# Altium schematic symbol library LM78xx.SchLib: 1 symbol
Pins are listed as number, name and electrical type; pins without a type are passive.

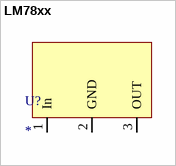
[diagram p0: symbol LM78xx]

## LM78xx
designator U?
LM78xx
footprint LM78xx
pins: 1 In, 2 GND, 3 OUT